# EAGLE library part HM2102NLT (library HyTechDevices-ltc4421 components)
2 Channel SMT Transformer Turns ratio: 1CT: 1CT Isolation Voltage: 4300 VDC Inductance: 150 uH Leakage Inductance: 0.50 uH max DataSheet <https://www.mouser.com/datasheet/2/336/HM2102NL-1218600.pdf>
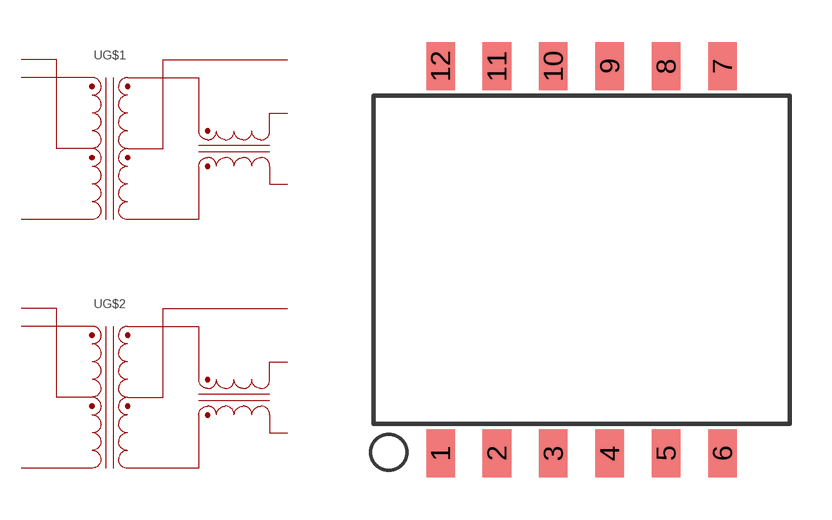
[diagram p14: symbol with the pads of HM2102NLT; footprint HM2102NLT]

Designator prefix -; gates G$1=TRANSFORMER G$2=TRANSFORMER

## HM2102NLT  [HM2102NLT]
1  G$1:MX+  pas
2  G$1:MCT  pas
3  G$1:MX-  pas
4  G$2:MX+  pas
5  G$2:MCT  pas
6  G$2:MX-  pas
7  G$2:TD-  pas
8  G$2:TCT  pas
9  G$2:TD+  pas
10  G$1:TD-  pas
11  G$1:TCT  pas
12  G$1:TD+  pas

## Footprint HM2102NLT (pad centres in mm)
HM2102NL Transformer Datasheet <https://www.mouser.com/datasheet/2/336/HM2102NL-1218600.pdf>
smd 1.016 x 1.714: 1 -5.016,-6.89; 2 -3.01,-6.89; 3 -1.003,-6.89; 4 1.003,-6.89; 5 3.01,-6.89; 6 5.016,-6.89; 7 5.016,6.89; 8 3.01,6.89; 9 1.003,6.89; 10 -1.003,6.89; 11 -3.01,6.89; 12 -5.016,6.89